# EAGLE library part BEAGLEBONE_BLUE_R3_BQ29209 (library EagleTestLibrary_3)
BQ29209 2-CELL Balance and Overvoltage Protection
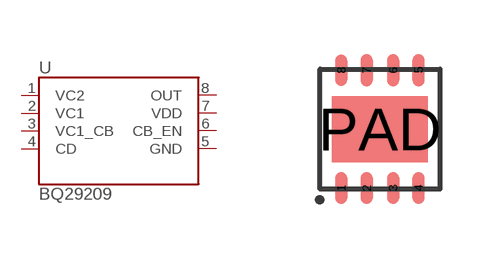
[diagram p6: symbol with the pads of BEAGLEBONE_BLUE_R3_8-SON_3X3MM; footprint BEAGLEBONE_BLUE_R3_8-SON_3X3MM]

Designator prefix -

## BEAGLEBONE_BLUE_R3_BQ29209  [BEAGLEBONE_BLUE_R3_8-SON_3X3MM]
1  VC2
2  VC1
3  VC1_CB
4  CD
5  GND
6  CB_EN
7  VDD
8  OUT

## Footprint BEAGLEBONE_BLUE_R3_8-SON_3X3MM (pad centres in mm)
smd 0.305 x 0.813: 1 -0.965,-1.473; 2 -0.33,-1.473; 3 0.33,-1.473; 4 0.965,-1.473; 5 0.965,1.473; 6 0.33,1.473; 7 -0.33,1.473
smd 0.305 x 0.787: 8 -0.965,1.473
smd 2.4 x 1.651: PAD 0,0